# Altium integrated library HT7550-1 (1).IntLib: 1 symbol
Pins are listed as number, name and electrical type; pins without a type are passive.

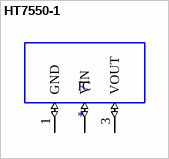
[diagram p0: symbol HT7550-1]

## HT7550-1
designator IC
Voltage stabiliser; LDO, fixed; 5V; 0.1A; SOT89; SMD; MP: HT7550-1; MF: Holtek; Package: None; Value: *; Price: None; Availability: Unavailable; SnapEDA_Link: https://www.snapeda.com/parts/HT7550-1/Holtek/view-part/586500/?ref=snap
footprint SOT89
pins: 1 GND (io), 2 VIN (io), 2@1 VIN (io), 3 VOUT (io)